# Altium schematic symbol library conn_b2b.SchLib: 77 symbols (part 3 of 3)
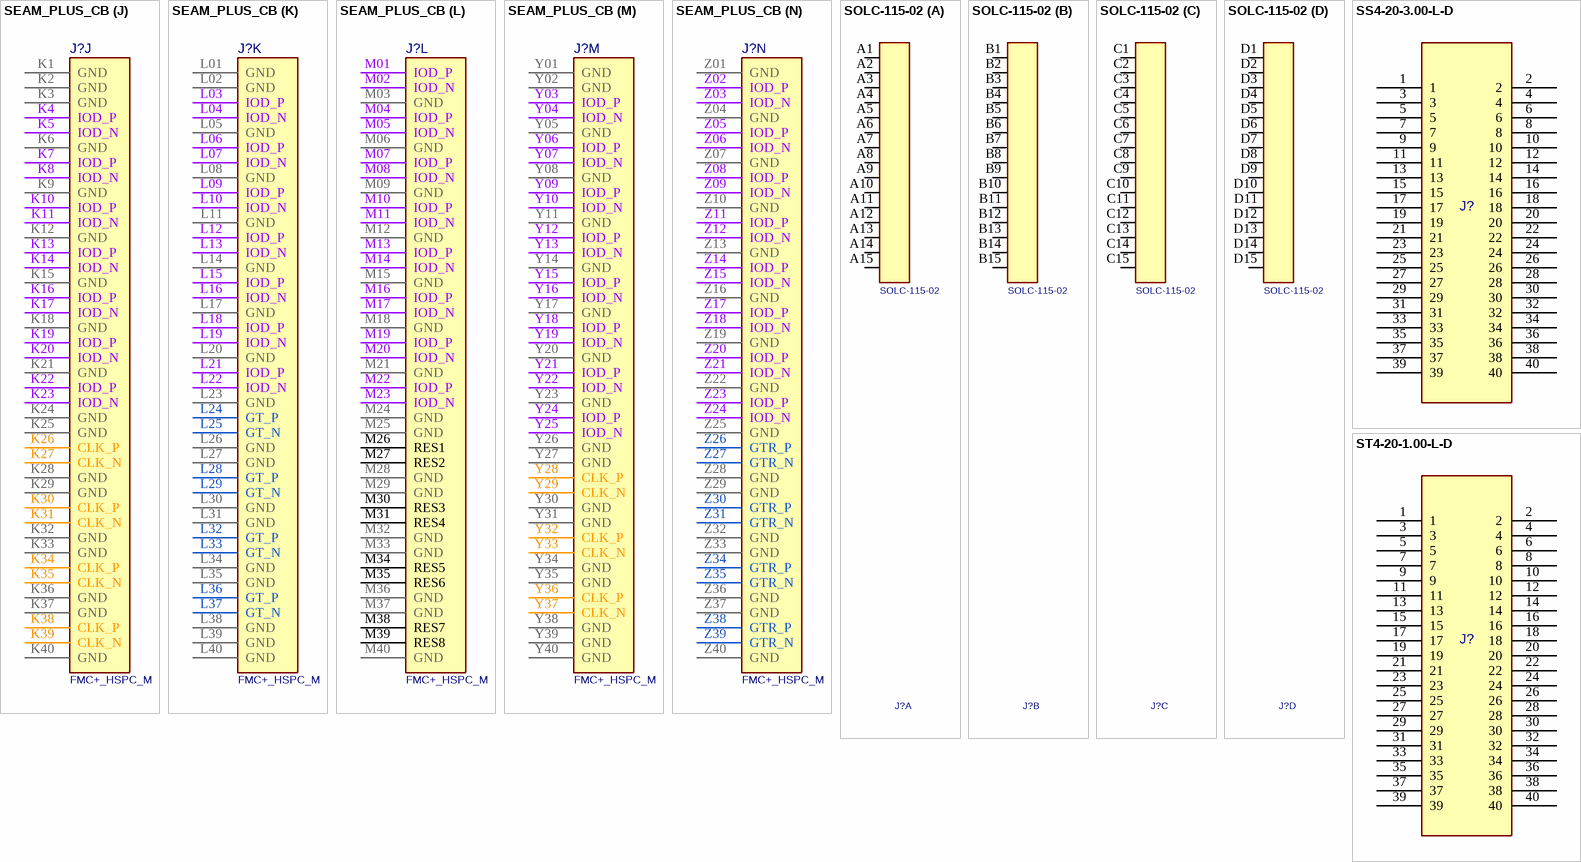
[diagram p25: symbols SEAM_PLUS_CB to ST4-20-1.00-L-D]

## SEAM_PLUS_CB
designator J?, comment FMC+_HSPC_M
CONN, FMC+, HSPC, 560PIN, MALE for Module; DESC: ASP-134486 for female / ASP-134488 for male; MANF: SAMTEC, MOLEX; MANF_P#: ASP-184330-01; PARAM: Module; VALUE: FMC+_HSPC_M
footprint SEAM_PLUS (FMC+ male, asp-184330)
part A pins: A1 GND, A2 GND, A3 GND, A4 IOD_P, A5 IOD_N, A6 GND, A7 IOD_P, A8 IOD_N, A9 GND, A10 IOD_P, A11 IOD_N, A12 GND, A13 IOD_P, A14 IOD_N, A15 GND, A16 IOD_P, A17 IOD_N, A18 GND, A19 IOD_P, A20 IOD_N, A21 GND, A22 IOD_P, A23 IOD_N, A24 GND, A25 GND, A26 GND, A27 GND, A28 CLK_P, A29 CLK_N, A30 GND, A31 GND, A32 CLK_P, A33 CLK_N, A34 GND, A35 GND, A36 CLK_P, A37 CLK_N, A38 GND, A39 GND, A40 GND
part B pins: B1 GND, B2 GND, B3 GND, B4 IOD_P, B5 IOD_N, B6 GND, B7 IOD_P, B8 IOD_N, B9 GND, B10 IOD_P, B11 IOD_N, B12 GND, B13 IOD_P, B14 IOD_N, B15 GND, B16 IOD_P, B17 IOD_N, B18 GND, B19 IOD_P, B20 IOD_N, B21 GND, B22 IOD_P, B23 IOD_N, B24 GND, B25 GND, B26 GTR_P, B27 GTR_N, B28 GND, B29 GND, B30 GTR_P, B31 GTR_N, B32 GND, B33 GND, B34 GTR_P, B35 GTR_N, B36 GND, B37 GND, B38 GTR_P, B39 GTR_N, B40 GND
part C pins: C1 +3.3V, C2 +3.3V, C3 MS/CK, C4 GND, C5 GND, C6 IOD_P, C7 IOD_N, C8 GND, C9 IOD_P, C10 IOD_N, C11 GND, C12 IOD_P, C13 IOD_N, C14 GND, C15 IOD_P, C16 IOD_N, C17 GND, C18 IOD_P, C19 IOD_N, C20 GND, C21 IOD_P, C22 IOD_N, C23 GND, C24 GT_P, C25 GT_N, C26 GND, C27 GND, C28 GT_P, C29 GT_N, C30 GND, C31 GND, C32 GT_P, C33 GT_N, C34 GND, C35 GND, C36 GT_P, C37 GT_N, C38 GND, C39 GND, C40 GND
part D pins: D1 +3.3V, D2 +12V, D3 CK, D4 IOD_P, D5 IOD_N, D6 GND, D7 IOD_P, D8 IOD_N, D9 GND, D10 IOD_P, D11 IOD_N, D12 GND, D13 IOD_P, D14 IOD_N, D15 GND, D16 IOD_P, D17 IOD_N, D18 GND, D19 IOD_P, D20 IOD_N, D21 GND, D22 IOD_P, D23 IOD_N, D24 GND, D25 GND, D26 GTR_P, D27 GTR_N, D28 GND, D29 GND, D30 GTR_P, D31 GTR_N, D32 GND, D33 GND, D34 GTR_P, D35 GTR_N, D36 GND, D37 GND, D38 GTR_P, D39 GTR_N, D40 GND
part E pins: E1 +12V, E2 +12V, E3 DO/SDA, E4 GND, E5 GND, E6 IOD_P, E7 IOD_N, E8 GND, E9 IOD_P, E10 IOD_N, E11 GND, E12 IOD_P, E13 IOD_N, E14 GND, E15 IOD_P, E16 IOD_N, E17 GND, E18 IOD_P, E19 IOD_N, E20 GND, E21 IOD_P, E22 IOD_N, E23 GND, E24 GT_P, E25 GT_N, E26 GND, E27 GND, E28 GT_P, E29 GT_N, E30 GND, E31 GND, E32 GT_P, E33 GT_N, E34 GND, E35 GND, E36 GT_P, E37 GT_N, E38 GND, E39 GND, E40 GND
part F pins: F1 +12V, F2 +12V, F3 DI/SCL, F4 IOD_P, F5 IOD_N, F6 GND, F7 IOD_P, F8 IOD_N, F9 GND, F10 IOD_P, F11 IOD_N, F12 GND, F13 IOD_P, F14 IOD_N, F15 GND, F16 IOD_P, F17 IOD_N, F18 GND, F19 IOD_P, F20 IOD_N, F21 GND, F22 IOD_P, F23 IOD_N, F24 GND, F25 GND, F26 GTR_P, F27 GTR_N, F28 GND, F29 GND, F30 GTR_P, F31 GTR_N, F32 GND, F33 GND, F34 GTR_P, F35 GTR_N, F36 GND, F37 GND, F38 GTR_P, F39 GTR_N, F40 GND
part G pins: G1 +12V, G2 +12V, G3 VIO, G4 GND, G5 GND, G6 IOD_P, G7 IOD_N, G8 GND, G9 IOD_P, G10 IOD_N, G11 GND, G12 IOD_P, G13 IOD_N, G14 GND, G15 IOD_P, G16 IOD_N, G17 GND, G18 IOD_P, G19 IOD_N, G20 GND, G21 IOD_P, G22 IOD_N, G23 GND, G24 GT_P, G25 GT_N, G26 GND, G27 GND, G28 GT_P, G29 GT_N, G30 GND, G31 GND, G32 GT_P, G33 GT_N, G34 GND, G35 GND, G36 GT_P, G37 GT_N, G38 GND, G39 GND, G40 GND
part H pins: H1 +12V, H2 +12V, H3 VIO, H4 IOD_P, H5 IOD_N, H6 GND, H7 IOD_P, H8 IOD_N, H9 GND, H10 IOD_P, H11 IOD_N, H12 GND, H13 IOD_P, H14 IOD_N, H15 GND, H16 IOD_P, H17 IOD_N, H18 GND, H19 IOD_P, H20 IOD_N, H21 GND, H22 IOD_P, H23 IOD_N, H24 GND, H25 GND, H26 GTR_P, H27 GTR_N, H28 GND, H29 GND, H30 GTR_P, H31 GTR_N, H32 GND, H33 GND, H34 GTR_P, H35 GTR_N, H36 GND, H37 GND, H38 GTR_P, H39 GTR_N, H40 GND
part I pins: J1 GND, J2 GND, J3 GND, J4 GND, J5 GND, J6 IOD_P, J7 IOD_N, J8 GND, J9 IOD_P, J10 IOD_N, J11 GND, J12 IOD_P, J13 IOD_N, J14 GND, J15 IOD_P, J16 IOD_N, J17 GND, J18 IOD_P, J19 IOD_N, J20 GND, J21 IOD_P, J22 IOD_N, J23 GND, J24 GT_P, J25 GT_N, J26 GND, J27 GND, J28 GT_P, J29 GT_N, J30 GND, J31 GND, J32 GT_P, J33 GT_N, J34 GND, J35 GND, J36 GT_P, J37 GT_N, J38 GND, J39 GND, J40 GND
part J pins: K1 GND, K2 GND, K3 GND, K4 IOD_P, K5 IOD_N, K6 GND, K7 IOD_P, K8 IOD_N, K9 GND, K10 IOD_P, K11 IOD_N, K12 GND, K13 IOD_P, K14 IOD_N, K15 GND, K16 IOD_P, K17 IOD_N, K18 GND, K19 IOD_P, K20 IOD_N, K21 GND, K22 IOD_P, K23 IOD_N, K24 GND, K25 GND, K26 CLK_P, K27 CLK_N, K28 GND, K29 GND, K30 CLK_P, K31 CLK_N, K32 GND, K33 GND, K34 CLK_P, K35 CLK_N, K36 GND, K37 GND, K38 CLK_P, K39 CLK_N, K40 GND
part K pins: L01 GND, L02 GND, L03 IOD_P, L04 IOD_N, L05 GND, L06 IOD_P, L07 IOD_N, L08 GND, L09 IOD_P, L10 IOD_N, L11 GND, L12 IOD_P, L13 IOD_N, L14 GND, L15 IOD_P, L16 IOD_N, L17 GND, L18 IOD_P, L19 IOD_N, L20 GND, L21 IOD_P, L22 IOD_N, L23 GND, L24 GT_P, L25 GT_N, L26 GND, L27 GND, L28 GT_P, L29 GT_N, L30 GND, L31 GND, L32 GT_P, L33 GT_N, L34 GND, L35 GND, L36 GT_P, L37 GT_N, L38 GND, L39 GND, L40 GND
part L pins: M01 IOD_P, M02 IOD_N, M03 GND, M04 IOD_P, M05 IOD_N, M06 GND, M07 IOD_P, M08 IOD_N, M09 GND, M10 IOD_P, M11 IOD_N, M12 GND, M13 IOD_P, M14 IOD_N, M15 GND, M16 IOD_P, M17 IOD_N, M18 GND, M19 IOD_P, M20 IOD_N, M21 GND, M22 IOD_P, M23 IOD_N, M24 GND, M25 GND, M26 RES1, M27 RES2, M28 GND, M29 GND, M30 RES3, M31 RES4, M32 GND, M33 GND, M34 RES5, M35 RES6, M36 GND, M37 GND, M38 RES7, M39 RES8, M40 GND
part M pins: Y01 GND, Y02 GND, Y03 IOD_P, Y04 IOD_N, Y05 GND, Y06 IOD_P, Y07 IOD_N, Y08 GND, Y09 IOD_P, Y10 IOD_N, Y11 GND, Y12 IOD_P, Y13 IOD_N, Y14 GND, Y15 IOD_P, Y16 IOD_N, Y17 GND, Y18 IOD_P, Y19 IOD_N, Y20 GND, Y21 IOD_P, Y22 IOD_N, Y23 GND, Y24 IOD_P, Y25 IOD_N, Y26 GND, Y27 GND, Y28 CLK_P, Y29 CLK_N, Y30 GND, Y31 GND, Y32 CLK_P, Y33 CLK_N, Y34 GND, Y35 GND, Y36 CLK_P, Y37 CLK_N, Y38 GND, Y39 GND, Y40 GND
part N pins: Z01 GND, Z02 IOD_P, Z03 IOD_N, Z04 GND, Z05 IOD_P, Z06 IOD_N, Z07 GND, Z08 IOD_P, Z09 IOD_N, Z10 GND, Z11 IOD_P, Z12 IOD_N, Z13 GND, Z14 IOD_P, Z15 IOD_N, Z16 GND, Z17 IOD_P, Z18 IOD_N, Z19 GND, Z20 IOD_P, Z21 IOD_N, Z22 GND, Z23 IOD_P, Z24 IOD_N, Z25 GND, Z26 GTR_P, Z27 GTR_N, Z28 GND, Z29 GND, Z30 GTR_P, Z31 GTR_N, Z32 GND, Z33 GND, Z34 GTR_P, Z35 GTR_N, Z36 GND, Z37 GND, Z38 GTR_P, Z39 GTR_N, Z40 GND

## SOLC-115-02
designator J?
Conn, 60P 1.27mm 180D(F) SMD; MANF_P#: SOLC-115-02-S-Q-LC; MANF: SAMTEC; VALUE: SOLC-115-02
footprint SOLC_15Q (SAMTEC SOLC-115-02-S-Q-LC)
part A pins: A1, A2, A3, A4, A5, A6, A7, A8, A9, A10, A11, A12, A13, A14, A15
part B pins: B1, B2, B3, B4, B5, B6, B7, B8, B9, B10, B11, B12, B13, B14, B15
part C pins: C1, C2, C3, C4, C5, C6, C7, C8, C9, C10, C11, C12, C13, C14, C15
part D pins: D1, D2, D3, D4, D5, D6, D7, D8, D9, D10, D11, D12, D13, D14, D15

## SS4-20-3.00-L-D
designator J?  (value not drawn)
CONN B2B RCPT, 0.4mm SMD GOLD, 20POSx2; PARAM: 1.6A per pin, 0.4mm pitch, 2mm stack height, -55~125°C; MANF: Samtec; MANF_P#: SS4-20-3.00-L-D; VALUE: SS4-20-3.00-L-D
footprint SS4_20_3_L_D (Footprint not found)
pins: 1, 2, 3, 4, 5, 6, 7, 8, 9, 10, 11, 12, 13, 14, 15, 16, 17, 18, 19, 20, 21, 22, 23, 24, 25, 26, 27, 28, 29, 30, 31, 32, 33, 34, 35, 36, 37, 38, 39, 40

## ST4-20-1.00-L-D
designator J?  (value not drawn)
CONN B2B RCPT, 0.4mm SMD GOLD, 20POSx2; PARAM: 1.6A per pin, 0.4mm pitch, 2mm stack height, -55~125°C; MANF: Samtec; MANF_P#: ST4-20-1.00-L-D; VALUE: ST4-20-1.00-L-D
footprint ST4_20_1_L_D (CONN, ST4-20-1.00-L-D)
pins: 1, 2, 3, 4, 5, 6, 7, 8, 9, 10, 11, 12, 13, 14, 15, 16, 17, 18, 19, 20, 21, 22, 23, 24, 25, 26, 27, 28, 29, 30, 31, 32, 33, 34, 35, 36, 37, 38, 39, 40